# Altium integrated library BB Converter Digital to Analog.IntLib: 269 symbols (part 3 of 6)
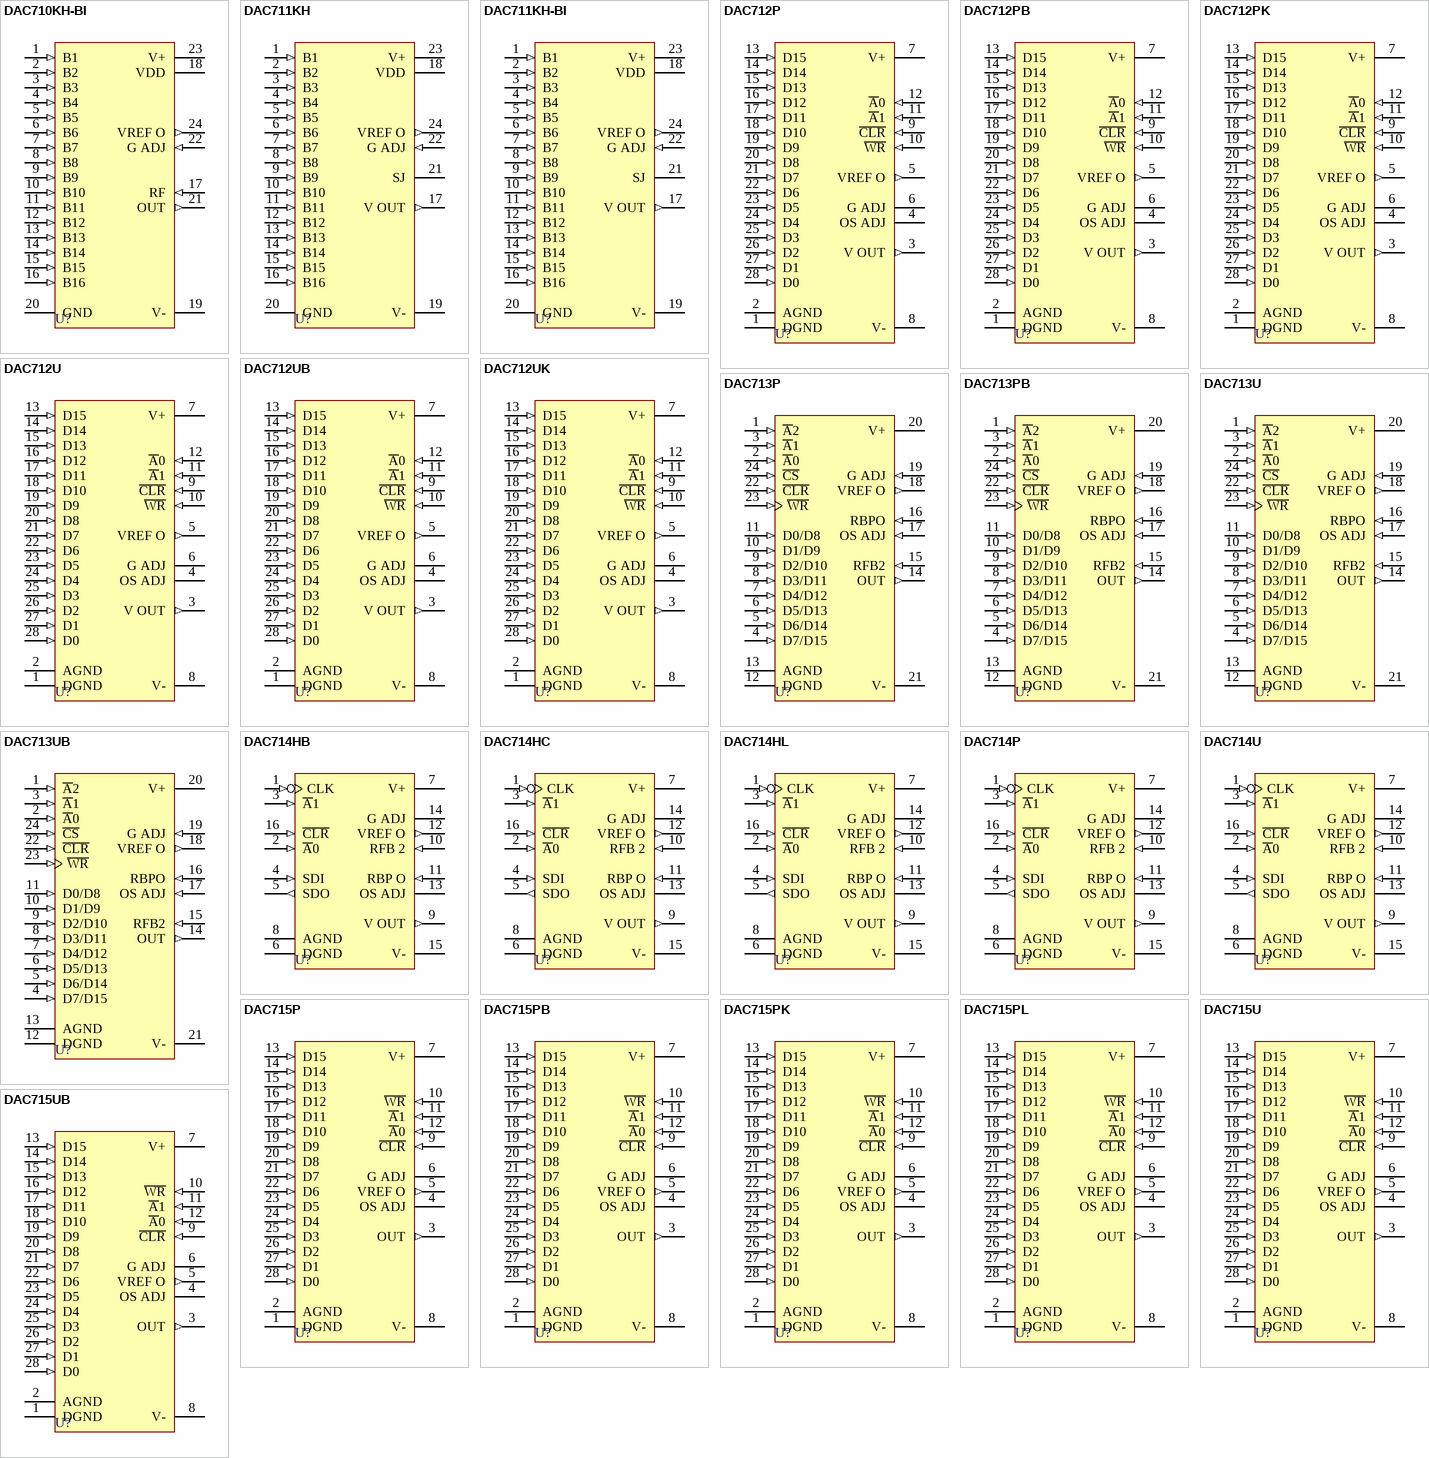
[diagram p12: symbols DAC710KH-BI to DAC715UB]

## DAC712PB
designator U?
16-Bit Digital-to-Analog Converter with 16-Bit Bus Interface; Published: 8-Jun-2000; LatestRevisionDate: 06-Jun-2005; LatestRevisionNote: Stylized 3D Model Added.; DatasheetVersion: May-1998; PackageVersion: revD; PackageReference: 246D; Publisher: Altium Limited; PackageDescription: DIP; 28 Leads; Row Spacing 7.62 mm; Pitch 2.54 mm; ComponentLink1Description: Manufacturer Link; ComponentLink1URL: http://www.ti.com/; ComponentLink2Description: Datasheet; ComponentLink2URL: http://www-s.ti.com/sc/ds/DAC712.pdf
footprint 246D (DIP; 28 Leads; Row Spacing 7.62 mm; Pitch 2.54 mm)
3D model 246D (DIP; 28 Leads; Row Spacing 7.62 mm; Pitch 2.54 mm)
pins: 1 DGND (power), 2 AGND (power), 3 V OUT (out), 4 OS ADJ, 5 VREF O (out), 6 G ADJ, 7 V+ (power), 8 V- (power), 9 ~{CLR} (in), 10 ~{WR} (in), 11 ~{A}1 (in), 12 ~{A}0 (in), 13 D15 (in), 14 D14 (in), 15 D13 (in), 16 D12 (in), 17 D11 (in), 18 D10 (in), 19 D9 (in), 20 D8 (in), 21 D7 (in), 22 D6 (in), 23 D5 (in), 24 D4 (in), 25 D3 (in), 26 D2 (in), 27 D1 (in), 28 D0 (in)

## DAC712PK
designator U?
16-Bit Digital-to-Analog Converter with 16-Bit Bus Interface; Published: 8-Jun-2000; LatestRevisionDate: 06-Jun-2005; LatestRevisionNote: Stylized 3D Model Added.; DatasheetVersion: May-1998; PackageVersion: revD; PackageReference: 246D; Publisher: Altium Limited; PackageDescription: DIP; 28 Leads; Row Spacing 7.62 mm; Pitch 2.54 mm; ComponentLink1Description: Manufacturer Link; ComponentLink1URL: http://www.ti.com/; ComponentLink2Description: Datasheet; ComponentLink2URL: http://www-s.ti.com/sc/ds/DAC712.pdf
footprint 246D (DIP; 28 Leads; Row Spacing 7.62 mm; Pitch 2.54 mm)
3D model 246D (DIP; 28 Leads; Row Spacing 7.62 mm; Pitch 2.54 mm)
pins: 1 DGND (power), 2 AGND (power), 3 V OUT (out), 4 OS ADJ, 5 VREF O (out), 6 G ADJ, 7 V+ (power), 8 V- (power), 9 ~{CLR} (in), 10 ~{WR} (in), 11 ~{A}1 (in), 12 ~{A}0 (in), 13 D15 (in), 14 D14 (in), 15 D13 (in), 16 D12 (in), 17 D11 (in), 18 D10 (in), 19 D9 (in), 20 D8 (in), 21 D7 (in), 22 D6 (in), 23 D5 (in), 24 D4 (in), 25 D3 (in), 26 D2 (in), 27 D1 (in), 28 D0 (in)

## DAC712U
designator U?
16-Bit Digital-to-Analog Converter with 16-Bit Bus Interface; Published: 8-Jun-2000; LatestRevisionDate: 13-Apr-2006; LatestRevisionNote: IPC-7351 Footprint Added.; DatasheetVersion: May-1998; PackageReference: 217G; Publisher: Altium Limited; PackageDescription: 28-Pin Small Outline Integrated Circuit 1.27 mm Pitch; ComponentLink1Description: Manufacturer Link; ComponentLink1URL: http://www.ti.com/; ComponentLink2Description: Datasheet; ComponentLink2URL: http://www-s.ti.com/sc/ds/DAC712.pdf
footprint 217G_N (SOIC, 28-Leads, Body 17.9x7.5mm, Pitch 1.27mm, IPC Medium Density)
footprint 217G_L (SOIC, 28-Leads, Body 17.9x7.5mm, Pitch 1.27mm, IPC High Density)
footprint 217G_M (SOIC, 28-Leads, Body 17.9x7.5mm, Pitch 1.27mm, IPC Low Density)
3D model 217G (28-Pin Small Outline Integrated Circuit 1.27 mm Pitch)
pins: 1 DGND (power), 2 AGND (power), 3 V OUT (out), 4 OS ADJ, 5 VREF O (out), 6 G ADJ, 7 V+ (power), 8 V- (power), 9 ~{CLR} (in), 10 ~{WR} (in), 11 ~{A}1 (in), 12 ~{A}0 (in), 13 D15 (in), 14 D14 (in), 15 D13 (in), 16 D12 (in), 17 D11 (in), 18 D10 (in), 19 D9 (in), 20 D8 (in), 21 D7 (in), 22 D6 (in), 23 D5 (in), 24 D4 (in), 25 D3 (in), 26 D2 (in), 27 D1 (in), 28 D0 (in)

## DAC712UB
designator U?
16-Bit Digital-to-Analog Converter with 16-Bit Bus Interface; Published: 8-Jun-2000; LatestRevisionDate: 13-Apr-2006; LatestRevisionNote: IPC-7351 Footprint Added.; DatasheetVersion: May-1998; PackageReference: 217G; Publisher: Altium Limited; PackageDescription: 28-Pin Small Outline Integrated Circuit 1.27 mm Pitch; ComponentLink1Description: Manufacturer Link; ComponentLink1URL: http://www.ti.com/; ComponentLink2Description: Datasheet; ComponentLink2URL: http://www-s.ti.com/sc/ds/DAC712.pdf
footprint 217G_N (SOIC, 28-Leads, Body 17.9x7.5mm, Pitch 1.27mm, IPC Medium Density)
footprint 217G_L (SOIC, 28-Leads, Body 17.9x7.5mm, Pitch 1.27mm, IPC High Density)
footprint 217G_M (SOIC, 28-Leads, Body 17.9x7.5mm, Pitch 1.27mm, IPC Low Density)
3D model 217G (28-Pin Small Outline Integrated Circuit 1.27 mm Pitch)
pins: 1 DGND (power), 2 AGND (power), 3 V OUT (out), 4 OS ADJ, 5 VREF O (out), 6 G ADJ, 7 V+ (power), 8 V- (power), 9 ~{CLR} (in), 10 ~{WR} (in), 11 ~{A}1 (in), 12 ~{A}0 (in), 13 D15 (in), 14 D14 (in), 15 D13 (in), 16 D12 (in), 17 D11 (in), 18 D10 (in), 19 D9 (in), 20 D8 (in), 21 D7 (in), 22 D6 (in), 23 D5 (in), 24 D4 (in), 25 D3 (in), 26 D2 (in), 27 D1 (in), 28 D0 (in)

## DAC712UK
designator U?
16-Bit Digital-to-Analog Converter with 16-Bit Bus Interface; Published: 8-Jun-2000; LatestRevisionDate: 13-Apr-2006; LatestRevisionNote: IPC-7351 Footprint Added.; DatasheetVersion: May-1998; PackageReference: 217G; Publisher: Altium Limited; PackageDescription: 28-Pin Small Outline Integrated Circuit 1.27 mm Pitch; ComponentLink1Description: Manufacturer Link; ComponentLink1URL: http://www.ti.com/; ComponentLink2Description: Datasheet; ComponentLink2URL: http://www-s.ti.com/sc/ds/DAC712.pdf
footprint 217G_N (SOIC, 28-Leads, Body 17.9x7.5mm, Pitch 1.27mm, IPC Medium Density)
footprint 217G_L (SOIC, 28-Leads, Body 17.9x7.5mm, Pitch 1.27mm, IPC High Density)
footprint 217G_M (SOIC, 28-Leads, Body 17.9x7.5mm, Pitch 1.27mm, IPC Low Density)
3D model 217G (28-Pin Small Outline Integrated Circuit 1.27 mm Pitch)
pins: 1 DGND (power), 2 AGND (power), 3 V OUT (out), 4 OS ADJ, 5 VREF O (out), 6 G ADJ, 7 V+ (power), 8 V- (power), 9 ~{CLR} (in), 10 ~{WR} (in), 11 ~{A}1 (in), 12 ~{A}0 (in), 13 D15 (in), 14 D14 (in), 15 D13 (in), 16 D12 (in), 17 D11 (in), 18 D10 (in), 19 D9 (in), 20 D8 (in), 21 D7 (in), 22 D6 (in), 23 D5 (in), 24 D4 (in), 25 D3 (in), 26 D2 (in), 27 D1 (in), 28 D0 (in)

## DAC713P
designator U?
16-Bit Digital-to-Analog Converter with 8-Bit Double-Buffered Bus Interface; Published: 8-Jun-2000; LatestRevisionDate: 06-Jun-2005; LatestRevisionNote: Stylized 3D Model Added.; DatasheetVersion: 1995; PackageVersion: revD; PackageReference: 243D; Publisher: Altium Limited; PackageDescription: DIP; 24 Leads; Row Spacing 7.62 mm; Pitch 2.54 mm; Code_JEDEC: MS-001-AF; ComponentLink1Description: Manufacturer Link; ComponentLink1URL: http://www.ti.com/
footprint 243D (DIP; 24 Leads; Row Spacing 7.62 mm; Pitch 2.54 mm)
3D model 243 (DIP; 24 Leads; Row Spacing 7.62 mm; Pitch 2.54 mm)
pins: 1 ~{A}2 (in), 2 ~{A}0 (in), 3 ~{A}1 (in), 4 D7/D15 (in), 5 D6/D14 (in), 6 D5/D13 (in), 7 D4/D12 (in), 8 D3/D11 (in), 9 D2/D10 (in), 10 D1/D9 (in), 11 D0/D8 (in), 12 DGND (power), 13 AGND (power), 14 OUT (out), 15 RFB2 (in), 16 RBPO (in), 17 OS ADJ (in), 18 VREF O (out), 19 G ADJ (in), 20 V+ (power), 21 V- (power), 22 ~{CLR} (in), 23 ~{WR} (in), 24 ~{CS} (in)

## DAC713PB
designator U?
16-Bit Digital-to-Analog Converter with 8-Bit Double-Buffered Bus Interface; Published: 8-Jun-2000; LatestRevisionDate: 06-Jun-2005; LatestRevisionNote: Stylized 3D Model Added.; DatasheetVersion: 1995; PackageVersion: revD; PackageReference: 243D; Publisher: Altium Limited; PackageDescription: DIP; 24 Leads; Row Spacing 7.62 mm; Pitch 2.54 mm; Code_JEDEC: MS-001-AF; ComponentLink1Description: Manufacturer Link; ComponentLink1URL: http://www.ti.com/
footprint 243D (DIP; 24 Leads; Row Spacing 7.62 mm; Pitch 2.54 mm)
3D model 243 (DIP; 24 Leads; Row Spacing 7.62 mm; Pitch 2.54 mm)
pins: 1 ~{A}2 (in), 2 ~{A}0 (in), 3 ~{A}1 (in), 4 D7/D15 (in), 5 D6/D14 (in), 6 D5/D13 (in), 7 D4/D12 (in), 8 D3/D11 (in), 9 D2/D10 (in), 10 D1/D9 (in), 11 D0/D8 (in), 12 DGND (power), 13 AGND (power), 14 OUT (out), 15 RFB2 (in), 16 RBPO (in), 17 OS ADJ (in), 18 VREF O (out), 19 G ADJ (in), 20 V+ (power), 21 V- (power), 22 ~{CLR} (in), 23 ~{WR} (in), 24 ~{CS} (in)

## DAC713U
designator U?
16-Bit Digital-to-Analog Converter with 8-Bit Double-Buffered Bus Interface; Published: 8-Jun-2000; LatestRevisionDate: 13-Apr-2006; LatestRevisionNote: IPC-7351 Footprint Added.; DatasheetVersion: 1995; PackageReference: 239E; Publisher: Altium Limited; PackageDescription: 24-Pin Small Outline Integrated Circuit 1.27 mm Pitch; ComponentLink1Description: Manufacturer Link; ComponentLink1URL: http://www.ti.com/
footprint 239E_N (SOIC, 24-Leads, Body 15.4x7.5mm, Pitch 1.27mm, IPC Medium Density)
footprint 239E_L (SOIC, 24-Leads, Body 15.4x7.5mm, Pitch 1.27mm, IPC High Density)
footprint 239E_M (SOIC, 24-Leads, Body 15.4x7.5mm, Pitch 1.27mm, IPC Low Density)
3D model 239 (24-Pin Small Outline Integrated Circuit 1.27 mm Pitch)
pins: 1 ~{A}2 (in), 2 ~{A}0 (in), 3 ~{A}1 (in), 4 D7/D15 (in), 5 D6/D14 (in), 6 D5/D13 (in), 7 D4/D12 (in), 8 D3/D11 (in), 9 D2/D10 (in), 10 D1/D9 (in), 11 D0/D8 (in), 12 DGND (power), 13 AGND (power), 14 OUT (out), 15 RFB2 (in), 16 RBPO (in), 17 OS ADJ (in), 18 VREF O (out), 19 G ADJ (in), 20 V+ (power), 21 V- (power), 22 ~{CLR} (in), 23 ~{WR} (in), 24 ~{CS} (in)

## DAC713UB
designator U?
16-Bit Digital-to-Analog Converter with 8-Bit Double-Buffered Bus Interface; Published: 8-Jun-2000; LatestRevisionDate: 13-Apr-2006; LatestRevisionNote: IPC-7351 Footprint Added.; DatasheetVersion: 1995; PackageReference: 239E; Publisher: Altium Limited; PackageDescription: 24-Pin Small Outline Integrated Circuit 1.27 mm Pitch; ComponentLink1Description: Manufacturer Link; ComponentLink1URL: http://www.ti.com/
footprint 239E_N (SOIC, 24-Leads, Body 15.4x7.5mm, Pitch 1.27mm, IPC Medium Density)
footprint 239E_L (SOIC, 24-Leads, Body 15.4x7.5mm, Pitch 1.27mm, IPC High Density)
footprint 239E_M (SOIC, 24-Leads, Body 15.4x7.5mm, Pitch 1.27mm, IPC Low Density)
3D model 239 (24-Pin Small Outline Integrated Circuit 1.27 mm Pitch)
pins: 1 ~{A}2 (in), 2 ~{A}0 (in), 3 ~{A}1 (in), 4 D7/D15 (in), 5 D6/D14 (in), 6 D5/D13 (in), 7 D4/D12 (in), 8 D3/D11 (in), 9 D2/D10 (in), 10 D1/D9 (in), 11 D0/D8 (in), 12 DGND (power), 13 AGND (power), 14 OUT (out), 15 RFB2 (in), 16 RBPO (in), 17 OS ADJ (in), 18 VREF O (out), 19 G ADJ (in), 20 V+ (power), 21 V- (power), 22 ~{CLR} (in), 23 ~{WR} (in), 24 ~{CS} (in)

## DAC714HB
designator U?
16-Bit Digital-to-Analog Converter with Serial Data Interface; Published: 8-Jun-2000; LatestRevisionDate: 06-Jun-2005; LatestRevisionNote: Stylized 3D Model Added.; DatasheetVersion: Jul-1997; PackageVersion: revD; PackageReference: ZZ129; Publisher: Altium Limited; PackageDescription: CerDIP; 16 Leads; Row Spacing 7.62 mm; Pitch 2.54 mm; ComponentLink1Description: Manufacturer Link; ComponentLink1URL: http://www.ti.com/; ComponentLink2Description: Datasheet; ComponentLink2URL: http://www-s.ti.com/sc/ds/DAC714.pdf
footprint ZZ129 (CerDIP; 16 Leads; Row Spacing 7.62 mm; Pitch 2.54 mm)
3D model ZZ129 (CerDIP; 16 Leads; Row Spacing 7.62 mm; Pitch 2.54 mm)
pins: 1 CLK (in), 2 ~{A}0 (in), 3 ~{A}1 (in), 4 SDI (in), 5 SDO (out), 6 DGND (power), 7 V+ (power), 8 AGND (power), 9 V OUT (out), 10 RFB 2 (in), 11 RBP O (in), 12 VREF O (out), 13 OS ADJ, 14 G ADJ, 15 V- (power), 16 ~{CLR} (in)

## DAC714HC
designator U?
16-Bit Digital-to-Analog Converter with Serial Data Interface; Published: 8-Jun-2000; LatestRevisionDate: 06-Jun-2005; LatestRevisionNote: Stylized 3D Model Added.; DatasheetVersion: Jul-1997; PackageVersion: revD; PackageReference: ZZ129; Publisher: Altium Limited; PackageDescription: CerDIP; 16 Leads; Row Spacing 7.62 mm; Pitch 2.54 mm; ComponentLink1Description: Manufacturer Link; ComponentLink1URL: http://www.ti.com/; ComponentLink2Description: Datasheet; ComponentLink2URL: http://www-s.ti.com/sc/ds/DAC714.pdf
footprint ZZ129 (CerDIP; 16 Leads; Row Spacing 7.62 mm; Pitch 2.54 mm)
3D model ZZ129 (CerDIP; 16 Leads; Row Spacing 7.62 mm; Pitch 2.54 mm)
pins: 1 CLK (in), 2 ~{A}0 (in), 3 ~{A}1 (in), 4 SDI (in), 5 SDO (out), 6 DGND (power), 7 V+ (power), 8 AGND (power), 9 V OUT (out), 10 RFB 2 (in), 11 RBP O (in), 12 VREF O (out), 13 OS ADJ, 14 G ADJ, 15 V- (power), 16 ~{CLR} (in)

## DAC714HL
designator U?
16-Bit Digital-to-Analog Converter with Serial Data Interface; Published: 8-Jun-2000; LatestRevisionDate: 06-Jun-2005; LatestRevisionNote: Stylized 3D Model Added.; DatasheetVersion: Jul-1997; PackageVersion: revD; PackageReference: ZZ129; Publisher: Altium Limited; PackageDescription: CerDIP; 16 Leads; Row Spacing 7.62 mm; Pitch 2.54 mm; ComponentLink1Description: Manufacturer Link; ComponentLink1URL: http://www.ti.com/; ComponentLink2Description: Datasheet; ComponentLink2URL: http://www-s.ti.com/sc/ds/DAC714.pdf
footprint ZZ129 (CerDIP; 16 Leads; Row Spacing 7.62 mm; Pitch 2.54 mm)
3D model ZZ129 (CerDIP; 16 Leads; Row Spacing 7.62 mm; Pitch 2.54 mm)
pins: 1 CLK (in), 2 ~{A}0 (in), 3 ~{A}1 (in), 4 SDI (in), 5 SDO (out), 6 DGND (power), 7 V+ (power), 8 AGND (power), 9 V OUT (out), 10 RFB 2 (in), 11 RBP O (in), 12 VREF O (out), 13 OS ADJ, 14 G ADJ, 15 V- (power), 16 ~{CLR} (in)

## DAC714P
designator U?
16-Bit Digital-to-Analog Converter with Serial Data Interface; Published: 8-Jun-2000; LatestRevisionDate: 06-Jun-2005; LatestRevisionNote: Stylized 3D Model Added.; DatasheetVersion: Jul-1997; PackageVersion: revF; PackageReference: ZZ180; Publisher: Altium Limited; PackageDescription: DIP, Plastic; 16 Leads; Row Spacing 7.62 mm; Pitch 2.54 mm; Code_JEDEC: MS-001-BB; ComponentLink1Description: Manufacturer Link; ComponentLink1URL: http://www.ti.com/; ComponentLink2Description: Datasheet; ComponentLink2URL: http://www-s.ti.com/sc/ds/DAC714.pdf
footprint ZZ180 (DIP, Plastic; 16 Leads; Row Spacing 7.62 mm; Pitch 2.54 mm)
3D model ZZ180 (DIP, Plastic; 16 Leads; Row Spacing 7.62 mm; Pitch 2.54 mm)
pins: 1 CLK (in), 2 ~{A}0 (in), 3 ~{A}1 (in), 4 SDI (in), 5 SDO (out), 6 DGND (power), 7 V+ (power), 8 AGND (power), 9 V OUT (out), 10 RFB 2 (in), 11 RBP O (in), 12 VREF O (out), 13 OS ADJ, 14 G ADJ, 15 V- (power), 16 ~{CLR} (in)

## DAC714U
designator U?
16-Bit Digital-to-Analog Converter with Serial Data Interface; Published: 8-Jun-2000; LatestRevisionDate: 13-Apr-2006; LatestRevisionNote: IPC-7351 Footprint Added.; DatasheetVersion: Jul-1997; PackageReference: 211F; Publisher: Altium Limited; PackageDescription: 16-Pin Small Outline Integrated Circuit 1.27 mm Pitch; Code_JEDEC: MS-013-AA; Code_IPC: SOIC127P1030-16; ComponentLink1Description: Manufacturer Link; ComponentLink1URL: http://www.ti.com/; ComponentLink2Description: Datasheet; ComponentLink2URL: http://www-s.ti.com/sc/ds/DAC714.pdf
footprint 211F_N (SOIC, 16-Leads, Body 10.3x7.5mm, Pitch 1.27mm, IPC Medium Density)
footprint 211F_L (SOIC, 16-Leads, Body 10.3x7.5mm, Pitch 1.27mm, IPC High Density)
footprint 211F_M (SOIC, 16-Leads, Body 10.3x7.5mm, Pitch 1.27mm, IPC Low Density)
3D model SOIC16 (16-Pin Small Outline Integrated Circuit 1.27 mm Pitch)
pins: 1 CLK (in), 2 ~{A}0 (in), 3 ~{A}1 (in), 4 SDI (in), 5 SDO (out), 6 DGND (power), 7 V+ (power), 8 AGND (power), 9 V OUT (out), 10 RFB 2 (in), 11 RBP O (in), 12 VREF O (out), 13 OS ADJ, 14 G ADJ, 15 V- (power), 16 ~{CLR} (in)

## DAC715P
designator U?
16-Bit Digital-to-Analog Converter with 16-Bit Bus Interface; Published: 8-Jun-2000; LatestRevisionDate: 06-Jun-2005; LatestRevisionNote: Stylized 3D Model Added.; DatasheetVersion: Jul-1997; PackageVersion: revD; PackageReference: 246D; Publisher: Altium Limited; PackageDescription: DIP; 28 Leads; Row Spacing 7.62 mm; Pitch 2.54 mm; ComponentLink1Description: Manufacturer Link; ComponentLink1URL: http://www.ti.com/; ComponentLink2Description: Datasheet; ComponentLink2URL: http://www-s.ti.com/sc/ds/DAC715.pdf
footprint 246D (DIP; 28 Leads; Row Spacing 7.62 mm; Pitch 2.54 mm)
3D model 246D (DIP; 28 Leads; Row Spacing 7.62 mm; Pitch 2.54 mm)
pins: 1 DGND (power), 2 AGND (power), 3 OUT (out), 4 OS ADJ, 5 VREF O (out), 6 G ADJ, 7 V+ (power), 8 V- (power), 9 ~{CLR} (in), 10 ~{WR} (in), 11 ~{A}1 (in), 12 ~{A}0 (in), 13 D15 (in), 14 D14 (in), 15 D13 (in), 16 D12 (in), 17 D11 (in), 18 D10 (in), 19 D9 (in), 20 D8 (in), 21 D7 (in), 22 D6 (in), 23 D5 (in), 24 D4 (in), 25 D3 (in), 26 D2 (in), 27 D1 (in), 28 D0 (in)

## DAC715PB
designator U?
16-Bit Digital-to-Analog Converter with 16-Bit Bus Interface; Published: 8-Jun-2000; LatestRevisionDate: 06-Jun-2005; LatestRevisionNote: Stylized 3D Model Added.; DatasheetVersion: Jul-1997; PackageVersion: revD; PackageReference: 246D; Publisher: Altium Limited; PackageDescription: DIP; 28 Leads; Row Spacing 7.62 mm; Pitch 2.54 mm; ComponentLink1Description: Manufacturer Link; ComponentLink1URL: http://www.ti.com/; ComponentLink2Description: Datasheet; ComponentLink2URL: http://www-s.ti.com/sc/ds/DAC715.pdf
footprint 246D (DIP; 28 Leads; Row Spacing 7.62 mm; Pitch 2.54 mm)
3D model 246D (DIP; 28 Leads; Row Spacing 7.62 mm; Pitch 2.54 mm)
pins: 1 DGND (power), 2 AGND (power), 3 OUT (out), 4 OS ADJ, 5 VREF O (out), 6 G ADJ, 7 V+ (power), 8 V- (power), 9 ~{CLR} (in), 10 ~{WR} (in), 11 ~{A}1 (in), 12 ~{A}0 (in), 13 D15 (in), 14 D14 (in), 15 D13 (in), 16 D12 (in), 17 D11 (in), 18 D10 (in), 19 D9 (in), 20 D8 (in), 21 D7 (in), 22 D6 (in), 23 D5 (in), 24 D4 (in), 25 D3 (in), 26 D2 (in), 27 D1 (in), 28 D0 (in)

## DAC715PK
designator U?
16-Bit Digital-to-Analog Converter with 16-Bit Bus Interface; Published: 8-Jun-2000; LatestRevisionDate: 06-Jun-2005; LatestRevisionNote: Stylized 3D Model Added.; DatasheetVersion: Jul-1997; PackageVersion: revD; PackageReference: 246D; Publisher: Altium Limited; PackageDescription: DIP; 28 Leads; Row Spacing 7.62 mm; Pitch 2.54 mm; ComponentLink1Description: Manufacturer Link; ComponentLink1URL: http://www.ti.com/; ComponentLink2Description: Datasheet; ComponentLink2URL: http://www-s.ti.com/sc/ds/DAC715.pdf
footprint 246D (DIP; 28 Leads; Row Spacing 7.62 mm; Pitch 2.54 mm)
3D model 246D (DIP; 28 Leads; Row Spacing 7.62 mm; Pitch 2.54 mm)
pins: 1 DGND (power), 2 AGND (power), 3 OUT (out), 4 OS ADJ, 5 VREF O (out), 6 G ADJ, 7 V+ (power), 8 V- (power), 9 ~{CLR} (in), 10 ~{WR} (in), 11 ~{A}1 (in), 12 ~{A}0 (in), 13 D15 (in), 14 D14 (in), 15 D13 (in), 16 D12 (in), 17 D11 (in), 18 D10 (in), 19 D9 (in), 20 D8 (in), 21 D7 (in), 22 D6 (in), 23 D5 (in), 24 D4 (in), 25 D3 (in), 26 D2 (in), 27 D1 (in), 28 D0 (in)

## DAC715PL
designator U?
16-Bit Digital-to-Analog Converter with 16-Bit Bus Interface; Published: 8-Jun-2000; LatestRevisionDate: 06-Jun-2005; LatestRevisionNote: Stylized 3D Model Added.; DatasheetVersion: Jul-1997; PackageVersion: revD; PackageReference: 246D; Publisher: Altium Limited; PackageDescription: DIP; 28 Leads; Row Spacing 7.62 mm; Pitch 2.54 mm; ComponentLink1Description: Manufacturer Link; ComponentLink1URL: http://www.ti.com/; ComponentLink2Description: Datasheet; ComponentLink2URL: http://www-s.ti.com/sc/ds/DAC715.pdf
footprint 246D (DIP; 28 Leads; Row Spacing 7.62 mm; Pitch 2.54 mm)
3D model 246D (DIP; 28 Leads; Row Spacing 7.62 mm; Pitch 2.54 mm)
pins: 1 DGND (power), 2 AGND (power), 3 OUT (out), 4 OS ADJ, 5 VREF O (out), 6 G ADJ, 7 V+ (power), 8 V- (power), 9 ~{CLR} (in), 10 ~{WR} (in), 11 ~{A}1 (in), 12 ~{A}0 (in), 13 D15 (in), 14 D14 (in), 15 D13 (in), 16 D12 (in), 17 D11 (in), 18 D10 (in), 19 D9 (in), 20 D8 (in), 21 D7 (in), 22 D6 (in), 23 D5 (in), 24 D4 (in), 25 D3 (in), 26 D2 (in), 27 D1 (in), 28 D0 (in)

## DAC715U
designator U?
16-Bit Digital-to-Analog Converter with 16-Bit Bus Interface; Published: 8-Jun-2000; LatestRevisionDate: 13-Apr-2006; LatestRevisionNote: IPC-7351 Footprint Added.; DatasheetVersion: Jul-1997; PackageReference: 217G; Publisher: Altium Limited; PackageDescription: 28-Pin Small Outline Integrated Circuit 1.27 mm Pitch; ComponentLink1Description: Manufacturer Link; ComponentLink1URL: http://www.ti.com/; ComponentLink2Description: Datasheet; ComponentLink2URL: http://www-s.ti.com/sc/ds/DAC715.pdf
footprint 217G_N (SOIC, 28-Leads, Body 17.9x7.5mm, Pitch 1.27mm, IPC Medium Density)
footprint 217G_L (SOIC, 28-Leads, Body 17.9x7.5mm, Pitch 1.27mm, IPC High Density)
footprint 217G_M (SOIC, 28-Leads, Body 17.9x7.5mm, Pitch 1.27mm, IPC Low Density)
3D model 217G (28-Pin Small Outline Integrated Circuit 1.27 mm Pitch)
pins: 1 DGND (power), 2 AGND (power), 3 OUT (out), 4 OS ADJ, 5 VREF O (out), 6 G ADJ, 7 V+ (power), 8 V- (power), 9 ~{CLR} (in), 10 ~{WR} (in), 11 ~{A}1 (in), 12 ~{A}0 (in), 13 D15 (in), 14 D14 (in), 15 D13 (in), 16 D12 (in), 17 D11 (in), 18 D10 (in), 19 D9 (in), 20 D8 (in), 21 D7 (in), 22 D6 (in), 23 D5 (in), 24 D4 (in), 25 D3 (in), 26 D2 (in), 27 D1 (in), 28 D0 (in)

## DAC715UB
designator U?
16-Bit Digital-to-Analog Converter with 16-Bit Bus Interface; Published: 8-Jun-2000; LatestRevisionDate: 13-Apr-2006; LatestRevisionNote: IPC-7351 Footprint Added.; DatasheetVersion: Jul-1997; PackageReference: 217G; Publisher: Altium Limited; PackageDescription: 28-Pin Small Outline Integrated Circuit 1.27 mm Pitch; ComponentLink1Description: Manufacturer Link; ComponentLink1URL: http://www.ti.com/; ComponentLink2Description: Datasheet; ComponentLink2URL: http://www-s.ti.com/sc/ds/DAC715.pdf
footprint 217G_N (SOIC, 28-Leads, Body 17.9x7.5mm, Pitch 1.27mm, IPC Medium Density)
footprint 217G_L (SOIC, 28-Leads, Body 17.9x7.5mm, Pitch 1.27mm, IPC High Density)
footprint 217G_M (SOIC, 28-Leads, Body 17.9x7.5mm, Pitch 1.27mm, IPC Low Density)
3D model 217G (28-Pin Small Outline Integrated Circuit 1.27 mm Pitch)
pins: 1 DGND (power), 2 AGND (power), 3 OUT (out), 4 OS ADJ, 5 VREF O (out), 6 G ADJ, 7 V+ (power), 8 V- (power), 9 ~{CLR} (in), 10 ~{WR} (in), 11 ~{A}1 (in), 12 ~{A}0 (in), 13 D15 (in), 14 D14 (in), 15 D13 (in), 16 D12 (in), 17 D11 (in), 18 D10 (in), 19 D9 (in), 20 D8 (in), 21 D7 (in), 22 D6 (in), 23 D5 (in), 24 D4 (in), 25 D3 (in), 26 D2 (in), 27 D1 (in), 28 D0 (in)

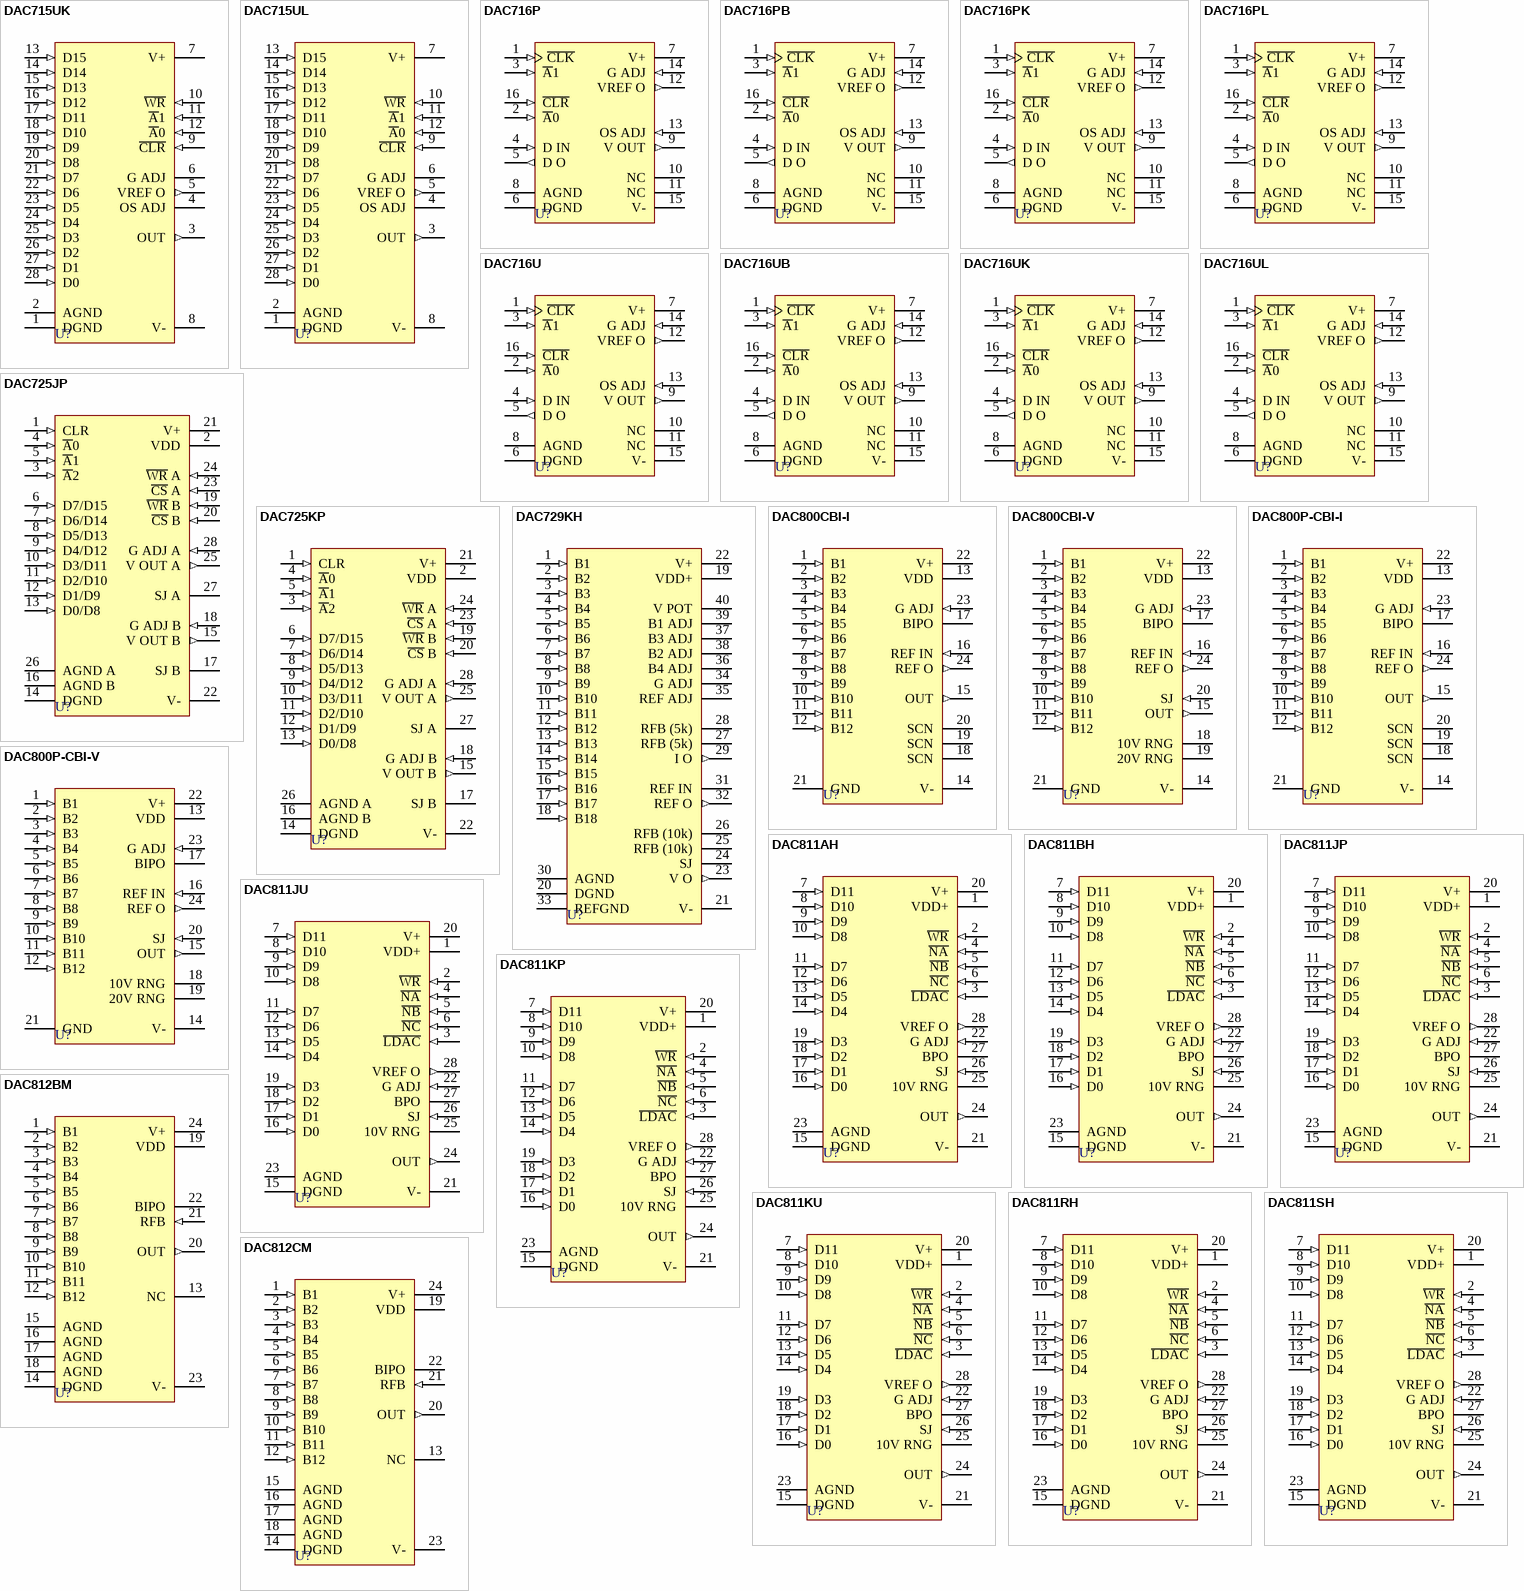
[diagram p5: symbols DAC715UK to DAC812CM]

## DAC715UK
designator U?
16-Bit Digital-to-Analog Converter with 16-Bit Bus Interface; Published: 8-Jun-2000; LatestRevisionDate: 13-Apr-2006; LatestRevisionNote: IPC-7351 Footprint Added.; DatasheetVersion: Jul-1997; PackageReference: 217G; Publisher: Altium Limited; PackageDescription: 28-Pin Small Outline Integrated Circuit 1.27 mm Pitch; ComponentLink1Description: Manufacturer Link; ComponentLink1URL: http://www.ti.com/; ComponentLink2Description: Datasheet; ComponentLink2URL: http://www-s.ti.com/sc/ds/DAC715.pdf
footprint 217G_N (SOIC, 28-Leads, Body 17.9x7.5mm, Pitch 1.27mm, IPC Medium Density)
footprint 217G_L (SOIC, 28-Leads, Body 17.9x7.5mm, Pitch 1.27mm, IPC High Density)
footprint 217G_M (SOIC, 28-Leads, Body 17.9x7.5mm, Pitch 1.27mm, IPC Low Density)
3D model 217G (28-Pin Small Outline Integrated Circuit 1.27 mm Pitch)
pins: 1 DGND (power), 2 AGND (power), 3 OUT (out), 4 OS ADJ, 5 VREF O (out), 6 G ADJ, 7 V+ (power), 8 V- (power), 9 ~{CLR} (in), 10 ~{WR} (in), 11 ~{A}1 (in), 12 ~{A}0 (in), 13 D15 (in), 14 D14 (in), 15 D13 (in), 16 D12 (in), 17 D11 (in), 18 D10 (in), 19 D9 (in), 20 D8 (in), 21 D7 (in), 22 D6 (in), 23 D5 (in), 24 D4 (in), 25 D3 (in), 26 D2 (in), 27 D1 (in), 28 D0 (in)

## DAC715UL
designator U?
16-Bit Digital-to-Analog Converter with 16-Bit Bus Interface; Published: 8-Jun-2000; LatestRevisionDate: 13-Apr-2006; LatestRevisionNote: IPC-7351 Footprint Added.; DatasheetVersion: Jul-1997; PackageReference: 217G; Publisher: Altium Limited; PackageDescription: 28-Pin Small Outline Integrated Circuit 1.27 mm Pitch; ComponentLink1Description: Manufacturer Link; ComponentLink1URL: http://www.ti.com/; ComponentLink2Description: Datasheet; ComponentLink2URL: http://www-s.ti.com/sc/ds/DAC715.pdf
footprint 217G_N (SOIC, 28-Leads, Body 17.9x7.5mm, Pitch 1.27mm, IPC Medium Density)
footprint 217G_L (SOIC, 28-Leads, Body 17.9x7.5mm, Pitch 1.27mm, IPC High Density)
footprint 217G_M (SOIC, 28-Leads, Body 17.9x7.5mm, Pitch 1.27mm, IPC Low Density)
3D model 217G (28-Pin Small Outline Integrated Circuit 1.27 mm Pitch)
pins: 1 DGND (power), 2 AGND (power), 3 OUT (out), 4 OS ADJ, 5 VREF O (out), 6 G ADJ, 7 V+ (power), 8 V- (power), 9 ~{CLR} (in), 10 ~{WR} (in), 11 ~{A}1 (in), 12 ~{A}0 (in), 13 D15 (in), 14 D14 (in), 15 D13 (in), 16 D12 (in), 17 D11 (in), 18 D10 (in), 19 D9 (in), 20 D8 (in), 21 D7 (in), 22 D6 (in), 23 D5 (in), 24 D4 (in), 25 D3 (in), 26 D2 (in), 27 D1 (in), 28 D0 (in)

## DAC716P
designator U?
16-Bit Digital-to-Analog Converter with Serial Data Interface; Note: Pins 10 and 11 are No internal Connection (NC) pins.; Published: 8-Jun-2000; LatestRevisionDate: 06-Jun-2005; LatestRevisionNote: Stylized 3D Model Added.; DatasheetVersion: Mar-1998; PackageVersion: revF; PackageReference: ZZ180; Publisher: Altium Limited; PackageDescription: DIP, Plastic; 16 Leads; Row Spacing 7.62 mm; Pitch 2.54 mm; Code_JEDEC: MS-001-BB; ComponentLink1Description: Manufacturer Link; ComponentLink1URL: http://www.ti.com/; ComponentLink2Description: Datasheet; ComponentLink2URL: http://www-s.ti.com/sc/ds/DAC716.pdf
footprint ZZ180 (DIP, Plastic; 16 Leads; Row Spacing 7.62 mm; Pitch 2.54 mm)
3D model ZZ180 (DIP, Plastic; 16 Leads; Row Spacing 7.62 mm; Pitch 2.54 mm)
pins: 1 ~{CLK} (in), 2 ~{A}0 (in), 3 ~{A}1 (in), 4 D IN (in), 5 D O (out), 6 DGND (power), 7 V+ (power), 8 AGND (power), 9 V OUT (out), 10 NC, 11 NC, 12 VREF O (out), 13 OS ADJ (in), 14 G ADJ (in), 15 V- (power), 16 ~{CLR} (in)

## DAC716PB
designator U?
16-Bit Digital-to-Analog Converter with Serial Data Interface; Note: Pins 10 and 11 are No internal Connection (NC) pins.; Published: 8-Jun-2000; LatestRevisionDate: 06-Jun-2005; LatestRevisionNote: Stylized 3D Model Added.; DatasheetVersion: Mar-1998; PackageVersion: revF; PackageReference: ZZ180; Publisher: Altium Limited; PackageDescription: DIP, Plastic; 16 Leads; Row Spacing 7.62 mm; Pitch 2.54 mm; Code_JEDEC: MS-001-BB; ComponentLink1Description: Manufacturer Link; ComponentLink1URL: http://www.ti.com/; ComponentLink2Description: Datasheet; ComponentLink2URL: http://www-s.ti.com/sc/ds/DAC716.pdf
footprint ZZ180 (DIP, Plastic; 16 Leads; Row Spacing 7.62 mm; Pitch 2.54 mm)
3D model ZZ180 (DIP, Plastic; 16 Leads; Row Spacing 7.62 mm; Pitch 2.54 mm)
pins: 1 ~{CLK} (in), 2 ~{A}0 (in), 3 ~{A}1 (in), 4 D IN (in), 5 D O (out), 6 DGND (power), 7 V+ (power), 8 AGND (power), 9 V OUT (out), 10 NC, 11 NC, 12 VREF O (out), 13 OS ADJ (in), 14 G ADJ (in), 15 V- (power), 16 ~{CLR} (in)

## DAC716PK
designator U?
16-Bit Digital-to-Analog Converter with Serial Data Interface; Note: Pins 10 and 11 are No internal Connection (NC) pins.; Published: 8-Jun-2000; LatestRevisionDate: 06-Jun-2005; LatestRevisionNote: Stylized 3D Model Added.; DatasheetVersion: Mar-1998; PackageVersion: revF; PackageReference: ZZ180; Publisher: Altium Limited; PackageDescription: DIP, Plastic; 16 Leads; Row Spacing 7.62 mm; Pitch 2.54 mm; Code_JEDEC: MS-001-BB; ComponentLink1Description: Manufacturer Link; ComponentLink1URL: http://www.ti.com/; ComponentLink2Description: Datasheet; ComponentLink2URL: http://www-s.ti.com/sc/ds/DAC716.pdf
footprint ZZ180 (DIP, Plastic; 16 Leads; Row Spacing 7.62 mm; Pitch 2.54 mm)
3D model ZZ180 (DIP, Plastic; 16 Leads; Row Spacing 7.62 mm; Pitch 2.54 mm)
pins: 1 ~{CLK} (in), 2 ~{A}0 (in), 3 ~{A}1 (in), 4 D IN (in), 5 D O (out), 6 DGND (power), 7 V+ (power), 8 AGND (power), 9 V OUT (out), 10 NC, 11 NC, 12 VREF O (out), 13 OS ADJ (in), 14 G ADJ (in), 15 V- (power), 16 ~{CLR} (in)

## DAC716PL
designator U?
16-Bit Digital-to-Analog Converter with Serial Data Interface; Note: Pins 10 and 11 are No internal Connection (NC) pins.; Published: 8-Jun-2000; LatestRevisionDate: 06-Jun-2005; LatestRevisionNote: Stylized 3D Model Added.; DatasheetVersion: 1996~1997; PackageVersion: revF; PackageReference: ZZ180; Publisher: Altium Limited; PackageDescription: DIP, Plastic; 16 Leads; Row Spacing 7.62 mm; Pitch 2.54 mm; Code_JEDEC: MS-001-BB; ComponentLink1Description: Manufacturer Link; ComponentLink1URL: http://www.ti.com/; ComponentLink2Description: Datasheet; ComponentLink2URL: http://www-s.ti.com/sc/ds/dac716.pdf
footprint ZZ180 (DIP, Plastic; 16 Leads; Row Spacing 7.62 mm; Pitch 2.54 mm)
3D model ZZ180 (DIP, Plastic; 16 Leads; Row Spacing 7.62 mm; Pitch 2.54 mm)
pins: 1 ~{CLK} (in), 2 ~{A}0 (in), 3 ~{A}1 (in), 4 D IN (in), 5 D O (out), 6 DGND (power), 7 V+ (power), 8 AGND (power), 9 V OUT (out), 10 NC, 11 NC, 12 VREF O (out), 13 OS ADJ (in), 14 G ADJ (in), 15 V- (power), 16 ~{CLR} (in)

## DAC716U
designator U?
16-Bit Digital-to-Analog Converter with Serial Data Interface; Note: Pins 10 and 11 are No internal Connection (NC) pins.; Published: 8-Jun-2000; LatestRevisionDate: 13-Apr-2006; LatestRevisionNote: IPC-7351 Footprint Added.; DatasheetVersion: Mar-1998; PackageReference: 211F; Publisher: Altium Limited; PackageDescription: 16-Pin Small Outline Integrated Circuit 1.27 mm Pitch; Code_JEDEC: MS-013-AA; Code_IPC: SOIC127P1030-16; ComponentLink1Description: Manufacturer Link; ComponentLink1URL: http://www.ti.com/; ComponentLink2Description: Datasheet; ComponentLink2URL: http://www-s.ti.com/sc/ds/DAC716.pdf
footprint 211F_N (SOIC, 16-Leads, Body 10.3x7.5mm, Pitch 1.27mm, IPC Medium Density)
footprint 211F_L (SOIC, 16-Leads, Body 10.3x7.5mm, Pitch 1.27mm, IPC High Density)
footprint 211F_M (SOIC, 16-Leads, Body 10.3x7.5mm, Pitch 1.27mm, IPC Low Density)
3D model SOIC16 (16-Pin Small Outline Integrated Circuit 1.27 mm Pitch)
pins: 1 ~{CLK} (in), 2 ~{A}0 (in), 3 ~{A}1 (in), 4 D IN (in), 5 D O (out), 6 DGND (power), 7 V+ (power), 8 AGND (power), 9 V OUT (out), 10 NC, 11 NC, 12 VREF O (out), 13 OS ADJ (in), 14 G ADJ (in), 15 V- (power), 16 ~{CLR} (in)

## DAC716UB
designator U?
16-Bit Digital-to-Analog Converter with Serial Data Interface; Note: Pins 10 and 11 are No internal Connection (NC) pins.; Published: 8-Jun-2000; LatestRevisionDate: 13-Apr-2006; LatestRevisionNote: IPC-7351 Footprint Added.; DatasheetVersion: Mar-1998; PackageReference: 211F; Publisher: Altium Limited; PackageDescription: 16-Pin Small Outline Integrated Circuit 1.27 mm Pitch; Code_JEDEC: MS-013-AA; Code_IPC: SOIC127P1030-16; ComponentLink1Description: Manufacturer Link; ComponentLink1URL: http://www.ti.com/; ComponentLink2Description: Datasheet; ComponentLink2URL: http://www-s.ti.com/sc/ds/DAC716.pdf
footprint 211F_N (SOIC, 16-Leads, Body 10.3x7.5mm, Pitch 1.27mm, IPC Medium Density)
footprint 211F_L (SOIC, 16-Leads, Body 10.3x7.5mm, Pitch 1.27mm, IPC High Density)
footprint 211F_M (SOIC, 16-Leads, Body 10.3x7.5mm, Pitch 1.27mm, IPC Low Density)
3D model SOIC16 (16-Pin Small Outline Integrated Circuit 1.27 mm Pitch)
pins: 1 ~{CLK} (in), 2 ~{A}0 (in), 3 ~{A}1 (in), 4 D IN (in), 5 D O (out), 6 DGND (power), 7 V+ (power), 8 AGND (power), 9 V OUT (out), 10 NC, 11 NC, 12 VREF O (out), 13 OS ADJ (in), 14 G ADJ (in), 15 V- (power), 16 ~{CLR} (in)

## DAC716UK
designator U?
16-Bit Digital-to-Analog Converter with Serial Data Interface; Note: Pins 10 and 11 are No internal Connection (NC) pins.; Published: 8-Jun-2000; LatestRevisionDate: 13-Apr-2006; LatestRevisionNote: IPC-7351 Footprint Added.; DatasheetVersion: Mar-1998; PackageReference: 211F; Publisher: Altium Limited; PackageDescription: 16-Pin Small Outline Integrated Circuit 1.27 mm Pitch; Code_JEDEC: MS-013-AA; Code_IPC: SOIC127P1030-16; ComponentLink1Description: Manufacturer Link; ComponentLink1URL: http://www.ti.com/; ComponentLink2Description: Datasheet; ComponentLink2URL: http://www-s.ti.com/sc/ds/DAC716.pdf
footprint 211F_N (SOIC, 16-Leads, Body 10.3x7.5mm, Pitch 1.27mm, IPC Medium Density)
footprint 211F_L (SOIC, 16-Leads, Body 10.3x7.5mm, Pitch 1.27mm, IPC High Density)
footprint 211F_M (SOIC, 16-Leads, Body 10.3x7.5mm, Pitch 1.27mm, IPC Low Density)
3D model SOIC16 (16-Pin Small Outline Integrated Circuit 1.27 mm Pitch)
pins: 1 ~{CLK} (in), 2 ~{A}0 (in), 3 ~{A}1 (in), 4 D IN (in), 5 D O (out), 6 DGND (power), 7 V+ (power), 8 AGND (power), 9 V OUT (out), 10 NC, 11 NC, 12 VREF O (out), 13 OS ADJ (in), 14 G ADJ (in), 15 V- (power), 16 ~{CLR} (in)

## DAC716UL
designator U?
16-Bit Digital-to-Analog Converter with Serial Data Interface; Note: Pins 10 and 11 are No internal Connection (NC) pins.; Published: 8-Jun-2000; LatestRevisionDate: 13-Apr-2006; LatestRevisionNote: IPC-7351 Footprint Added.; DatasheetVersion: 1996~1997; PackageReference: 211F; Publisher: Altium Limited; PackageDescription: 16-Pin Small Outline Integrated Circuit 1.27 mm Pitch; Code_JEDEC: MS-013-AA; Code_IPC: SOIC127P1030-16; ComponentLink1Description: Manufacturer Link; ComponentLink1URL: http://www.ti.com/; ComponentLink2Description: Datasheet; ComponentLink2URL: http://www-s.ti.com/sc/ds/dac716.pdf
footprint 211F_N (SOIC, 16-Leads, Body 10.3x7.5mm, Pitch 1.27mm, IPC Medium Density)
footprint 211F_L (SOIC, 16-Leads, Body 10.3x7.5mm, Pitch 1.27mm, IPC High Density)
footprint 211F_M (SOIC, 16-Leads, Body 10.3x7.5mm, Pitch 1.27mm, IPC Low Density)
3D model SOIC16 (16-Pin Small Outline Integrated Circuit 1.27 mm Pitch)
pins: 1 ~{CLK} (in), 2 ~{A}0 (in), 3 ~{A}1 (in), 4 D IN (in), 5 D O (out), 6 DGND (power), 7 V+ (power), 8 AGND (power), 9 V OUT (out), 10 NC, 11 NC, 12 VREF O (out), 13 OS ADJ (in), 14 G ADJ (in), 15 V- (power), 16 ~{CLR} (in)

## DAC725JP
designator U?
Dual 16-Bit Digital-to-Analog Converter; Published: 8-Jun-2000; LatestRevisionDate: 06-Jun-2005; LatestRevisionNote: Stylized 3D Model Added.; DatasheetVersion: Aug-1993; PackageVersion: revJ; PackageReference: 215J; Publisher: Altium Limited; PackageDescription: DIP; 28 Leads; Row Spacing 15.24 mm; Pitch 2.54 mm; Code_JEDEC: MS-011-AB; ComponentLink1Description: Manufacturer Link; ComponentLink1URL: http://www.ti.com/; ComponentLink2Description: Datasheet; ComponentLink2URL: http://www-s.ti.com/sc/ds/DAC725.pdf
footprint 215J (DIP; 28 Leads; Row Spacing 15.24 mm; Pitch 2.54 mm)
3D model 215J (DIP; 28 Leads; Row Spacing 15.24 mm; Pitch 2.54 mm)
pins: 1 CLR (in), 2 VDD (power), 3 ~{A}2 (in), 4 ~{A}0 (in), 5 ~{A}1 (in), 6 D7/D15 (in), 7 D6/D14 (in), 8 D5/D13 (in), 9 D4/D12 (in), 10 D3/D11 (in), 11 D2/D10 (in), 12 D1/D9 (in), 13 D0/D8 (in), 14 DGND (power), 15 V OUT B (out), 16 AGND B (power), 17 SJ B, 18 G ADJ B (in), 19 ~{WR} B (in), 20 ~{CS} B (in), 21 V+ (power), 22 V- (power), 23 ~{CS} A (in), 24 ~{WR} A (in), 25 V OUT A (out), 26 AGND A (power), 27 SJ A, 28 G ADJ A (in)

## DAC725KP
designator U?
Dual 16-Bit Digital-to-Analog Converter; Published: 8-Jun-2000; LatestRevisionDate: 06-Jun-2005; LatestRevisionNote: Stylized 3D Model Added.; DatasheetVersion: Aug-1993; PackageVersion: revJ; PackageReference: 215J; Publisher: Altium Limited; PackageDescription: DIP; 28 Leads; Row Spacing 15.24 mm; Pitch 2.54 mm; Code_JEDEC: MS-011-AB; ComponentLink1Description: Manufacturer Link; ComponentLink1URL: http://www.ti.com/; ComponentLink2Description: Datasheet; ComponentLink2URL: http://www-s.ti.com/sc/ds/DAC725.pdf
footprint 215J (DIP; 28 Leads; Row Spacing 15.24 mm; Pitch 2.54 mm)
3D model 215J (DIP; 28 Leads; Row Spacing 15.24 mm; Pitch 2.54 mm)
pins: 1 CLR (in), 2 VDD (power), 3 ~{A}2 (in), 4 ~{A}0 (in), 5 ~{A}1 (in), 6 D7/D15 (in), 7 D6/D14 (in), 8 D5/D13 (in), 9 D4/D12 (in), 10 D3/D11 (in), 11 D2/D10 (in), 12 D1/D9 (in), 13 D0/D8 (in), 14 DGND (power), 15 V OUT B (out), 16 AGND B (power), 17 SJ B, 18 G ADJ B (in), 19 ~{WR} B (in), 20 ~{CS} B (in), 21 V+ (power), 22 V- (power), 23 ~{CS} A (in), 24 ~{WR} A (in), 25 V OUT A (out), 26 AGND A (power), 27 SJ A, 28 G ADJ A (in)

## DAC729KH
designator U?
Ultra-High Resolution 18-Bit Digital-to-Analog Converter; Published: 8-Jun-2000; LatestRevisionDate: 06-Jun-2005; LatestRevisionNote: Stylized 3D Model Added.; DatasheetVersion: 1989; PackageVersion: 1994; PackageReference: 214; Publisher: Altium Limited; PackageDescription: DIP; 40 Leads; Row Spacing 15.24 mm; Pitch 2.54 mm; ComponentLink1Description: Manufacturer Link; ComponentLink1URL: http://www.ti.com/
footprint 214 (DIP; 40 Leads; Row Spacing 15.24 mm; Pitch 2.54 mm)
3D model 214 (DIP; 40 Leads; Row Spacing 15.24 mm; Pitch 2.54 mm)
pins: 1 B1 (in), 2 B2 (in), 3 B3 (in), 4 B4 (in), 5 B5 (in), 6 B6 (in), 7 B7 (in), 8 B8 (in), 9 B9 (in), 10 B10 (in), 11 B11 (in), 12 B12 (in), 13 B13 (in), 14 B14 (in), 15 B15 (in), 16 B16 (in), 17 B17 (in), 18 B18 (in), 19 VDD+ (power), 20 DGND (power), 21 V- (power), 22 V+ (power), 23 V O (out), 24 SJ, 25 RFB (10k), 26 RFB (10k), 27 RFB (5k), 28 RFB (5k), 29 I O (out), 30 AGND (power), 31 REF IN, 32 REF O (out), 33 REFGND (power), 34 G ADJ, 35 REF ADJ, 36 B4 ADJ, 37 B3 ADJ, 38 B2 ADJ, 39 B1 ADJ, 40 V POT

## DAC800CBI-I
designator U?
Integrated Circuit Digital-to-Analog Converter; Published: 8-Jun-2000; LatestRevisionDate: 06-Jun-2005; LatestRevisionNote: Stylized 3D Model Added.; DatasheetVersion: 1986; PackageReference: 125; Publisher: Altium Limited; PackageDescription: DIP; 24 Leads; Row Spacing 15.24 mm; Pitch 2.54 mm; ComponentLink1Description: Manufacturer Link; ComponentLink1URL: http://www.ti.com/
footprint 125 (DIP; 24 Leads; Row Spacing 15.24 mm; Pitch 2.54 mm)
3D model CDIP24 (DIP; 24 Leads; Row Spacing 15.24 mm; Pitch 2.54 mm)
pins: 1 B1 (in), 2 B2 (in), 3 B3 (in), 4 B4 (in), 5 B5 (in), 6 B6 (in), 7 B7 (in), 8 B8 (in), 9 B9 (in), 10 B10 (in), 11 B11 (in), 12 B12 (in), 13 VDD (power), 14 V- (power), 15 OUT (out), 16 REF IN (in), 17 BIPO, 18 SCN, 19 SCN, 20 SCN, 21 GND (power), 22 V+ (power), 23 G ADJ (in), 24 REF O (out)

## DAC800CBI-V
designator U?
Integrated Circuit Digital-to-Analog Converter; Published: 8-Jun-2000; LatestRevisionDate: 06-Jun-2005; LatestRevisionNote: Stylized 3D Model Added.; DatasheetVersion: 1986; PackageReference: 125; Publisher: Altium Limited; PackageDescription: DIP; 24 Leads; Row Spacing 15.24 mm; Pitch 2.54 mm; ComponentLink1Description: Manufacturer Link; ComponentLink1URL: http://www.ti.com/
footprint 125 (DIP; 24 Leads; Row Spacing 15.24 mm; Pitch 2.54 mm)
3D model CDIP24 (DIP; 24 Leads; Row Spacing 15.24 mm; Pitch 2.54 mm)
pins: 1 B1 (in), 2 B2 (in), 3 B3 (in), 4 B4 (in), 5 B5 (in), 6 B6 (in), 7 B7 (in), 8 B8 (in), 9 B9 (in), 10 B10 (in), 11 B11 (in), 12 B12 (in), 13 VDD (power), 14 V- (power), 15 OUT (out), 16 REF IN (in), 17 BIPO, 18 10V RNG, 19 20V RNG, 20 SJ (in), 21 GND (power), 22 V+ (power), 23 G ADJ (in), 24 REF O (out)

## DAC800P-CBI-I
designator U?
Integrated Circuit Digital-to-Analog Converter; Published: 8-Jun-2000; LatestRevisionDate: 06-Jun-2005; LatestRevisionNote: Stylized 3D Model Added.; DatasheetVersion: 1986; PackageReference: DIP24D; Publisher: Altium Limited; PackageDescription: DIP; 24 Leads; Row Spacing 15.24 mm; Pitch 2.54 mm; Code_JEDEC: MS-011-AA; ComponentLink1Description: Manufacturer Link; ComponentLink1URL: http://www.ti.com/
footprint DIP24D (DIP; 24 Leads; Row Spacing 15.24 mm; Pitch 2.54 mm)
3D model DIP24D (DIP; 24 Leads; Row Spacing 15.24 mm; Pitch 2.54 mm)
pins: 1 B1 (in), 2 B2 (in), 3 B3 (in), 4 B4 (in), 5 B5 (in), 6 B6 (in), 7 B7 (in), 8 B8 (in), 9 B9 (in), 10 B10 (in), 11 B11 (in), 12 B12 (in), 13 VDD (power), 14 V- (power), 15 OUT (out), 16 REF IN (in), 17 BIPO, 18 SCN, 19 SCN, 20 SCN, 21 GND (power), 22 V+ (power), 23 G ADJ (in), 24 REF O (out)

## DAC800P-CBI-V
designator U?
Integrated Circuit Digital-to-Analog Converter; Published: 8-Jun-2000; LatestRevisionDate: 06-Jun-2005; LatestRevisionNote: Stylized 3D Model Added.; DatasheetVersion: 1986; PackageReference: DIP24D; Publisher: Altium Limited; PackageDescription: DIP; 24 Leads; Row Spacing 15.24 mm; Pitch 2.54 mm; Code_JEDEC: MS-011-AA; ComponentLink1Description: Manufacturer Link; ComponentLink1URL: http://www.ti.com/
footprint DIP24D (DIP; 24 Leads; Row Spacing 15.24 mm; Pitch 2.54 mm)
3D model DIP24D (DIP; 24 Leads; Row Spacing 15.24 mm; Pitch 2.54 mm)
pins: 1 B1 (in), 2 B2 (in), 3 B3 (in), 4 B4 (in), 5 B5 (in), 6 B6 (in), 7 B7 (in), 8 B8 (in), 9 B9 (in), 10 B10 (in), 11 B11 (in), 12 B12 (in), 13 VDD (power), 14 V- (power), 15 OUT (out), 16 REF IN (in), 17 BIPO, 18 10V RNG, 19 20V RNG, 20 SJ (in), 21 GND (power), 22 V+ (power), 23 G ADJ (in), 24 REF O (out)

## DAC811AH
designator U?
Microprocessor-Compatible 12-Bit Digital-to-Analog Converter; Published: 8-Jun-2000; LatestRevisionDate: 06-Jun-2005; LatestRevisionNote: Stylized 3D Model Added.; DatasheetVersion: Oct-1993; PackageVersion: revC; PackageReference: 149C; Publisher: Altium Limited; PackageDescription: DIP; 28 Leads; Row Spacing 15.24 mm; Pitch 2.54 mm; ComponentLink1Description: Manufacturer Link; ComponentLink1URL: http://www.ti.com/; ComponentLink2Description: Datasheet; ComponentLink2URL: http://www-s.ti.com/sc/ds/DAC811.pdf
footprint 149C (DIP; 28 Leads; Row Spacing 15.24 mm; Pitch 2.54 mm)
3D model 149 (DIP; 28 Leads; Row Spacing 15.24 mm; Pitch 2.54 mm)
pins: 1 VDD+ (power), 2 ~{WR} (in), 3 ~{LDAC} (in), 4 ~{NA} (in), 5 ~{NB} (in), 6 ~{NC} (in), 7 D11 (in), 8 D10 (in), 9 D9 (in), 10 D8 (in), 11 D7 (in), 12 D6 (in), 13 D5 (in), 14 D4 (in), 15 DGND (power), 16 D0 (in), 17 D1 (in), 18 D2 (in), 19 D3 (in), 20 V+ (power), 21 V- (power), 22 G ADJ (in), 23 AGND (power), 24 OUT (out), 25 10V RNG, 26 SJ (in), 27 BPO, 28 VREF O (out)

## DAC811BH
designator U?
Microprocessor-Compatible 12-Bit Digital-to-Analog Converter; Published: 8-Jun-2000; LatestRevisionDate: 06-Jun-2005; LatestRevisionNote: Stylized 3D Model Added.; DatasheetVersion: Oct-1993; PackageVersion: revC; PackageReference: 149C; Publisher: Altium Limited; PackageDescription: DIP; 28 Leads; Row Spacing 15.24 mm; Pitch 2.54 mm; ComponentLink1Description: Manufacturer Link; ComponentLink1URL: http://www.ti.com/; ComponentLink2Description: Datasheet; ComponentLink2URL: http://www-s.ti.com/sc/ds/DAC811.pdf
footprint 149C (DIP; 28 Leads; Row Spacing 15.24 mm; Pitch 2.54 mm)
3D model 149 (DIP; 28 Leads; Row Spacing 15.24 mm; Pitch 2.54 mm)
pins: 1 VDD+ (power), 2 ~{WR} (in), 3 ~{LDAC} (in), 4 ~{NA} (in), 5 ~{NB} (in), 6 ~{NC} (in), 7 D11 (in), 8 D10 (in), 9 D9 (in), 10 D8 (in), 11 D7 (in), 12 D6 (in), 13 D5 (in), 14 D4 (in), 15 DGND (power), 16 D0 (in), 17 D1 (in), 18 D2 (in), 19 D3 (in), 20 V+ (power), 21 V- (power), 22 G ADJ (in), 23 AGND (power), 24 OUT (out), 25 10V RNG, 26 SJ (in), 27 BPO, 28 VREF O (out)

## DAC811JP
designator U?
Microprocessor-Compatible 12-Bit Digital-to-Analog Converter; Published: 8-Jun-2000; LatestRevisionDate: 06-Jun-2005; LatestRevisionNote: Stylized 3D Model Added.; DatasheetVersion: Oct-1993; PackageVersion: revJ; PackageReference: 215J; Publisher: Altium Limited; PackageDescription: DIP; 28 Leads; Row Spacing 15.24 mm; Pitch 2.54 mm; Code_JEDEC: MS-011-AB; ComponentLink1Description: Manufacturer Link; ComponentLink1URL: http://www.ti.com/; ComponentLink2Description: Datasheet; ComponentLink2URL: http://www-s.ti.com/sc/ds/DAC811.pdf
footprint 215J (DIP; 28 Leads; Row Spacing 15.24 mm; Pitch 2.54 mm)
3D model 215J (DIP; 28 Leads; Row Spacing 15.24 mm; Pitch 2.54 mm)
pins: 1 VDD+ (power), 2 ~{WR} (in), 3 ~{LDAC} (in), 4 ~{NA} (in), 5 ~{NB} (in), 6 ~{NC} (in), 7 D11 (in), 8 D10 (in), 9 D9 (in), 10 D8 (in), 11 D7 (in), 12 D6 (in), 13 D5 (in), 14 D4 (in), 15 DGND (power), 16 D0 (in), 17 D1 (in), 18 D2 (in), 19 D3 (in), 20 V+ (power), 21 V- (power), 22 G ADJ (in), 23 AGND (power), 24 OUT (out), 25 10V RNG, 26 SJ (in), 27 BPO, 28 VREF O (out)

## DAC811JU
designator U?
Microprocessor-Compatible 12-Bit Digital-to-Analog Converter; Published: 8-Jun-2000; LatestRevisionDate: 13-Apr-2006; LatestRevisionNote: IPC-7351 Footprint Added.; DatasheetVersion: Oct-1993; PackageReference: 217G; Publisher: Altium Limited; PackageDescription: 28-Pin Small Outline Integrated Circuit 1.27 mm Pitch; ComponentLink1Description: Manufacturer Link; ComponentLink1URL: http://www.ti.com/; ComponentLink2Description: Datasheet; ComponentLink2URL: http://www-s.ti.com/sc/ds/DAC811.pdf
footprint 217G_N (SOIC, 28-Leads, Body 17.9x7.5mm, Pitch 1.27mm, IPC Medium Density)
footprint 217G_L (SOIC, 28-Leads, Body 17.9x7.5mm, Pitch 1.27mm, IPC High Density)
footprint 217G_M (SOIC, 28-Leads, Body 17.9x7.5mm, Pitch 1.27mm, IPC Low Density)
3D model 217G (28-Pin Small Outline Integrated Circuit 1.27 mm Pitch)
pins: 1 VDD+ (power), 2 ~{WR} (in), 3 ~{LDAC} (in), 4 ~{NA} (in), 5 ~{NB} (in), 6 ~{NC} (in), 7 D11 (in), 8 D10 (in), 9 D9 (in), 10 D8 (in), 11 D7 (in), 12 D6 (in), 13 D5 (in), 14 D4 (in), 15 DGND (power), 16 D0 (in), 17 D1 (in), 18 D2 (in), 19 D3 (in), 20 V+ (power), 21 V- (power), 22 G ADJ (in), 23 AGND (power), 24 OUT (out), 25 10V RNG, 26 SJ (in), 27 BPO, 28 VREF O (out)

## DAC811KP
designator U?
Microprocessor-Compatible 12-Bit Digital-to-Analog Converter; Published: 8-Jun-2000; LatestRevisionDate: 06-Jun-2005; LatestRevisionNote: Stylized 3D Model Added.; DatasheetVersion: Oct-1993; PackageVersion: revJ; PackageReference: 215J; Publisher: Altium Limited; PackageDescription: DIP; 28 Leads; Row Spacing 15.24 mm; Pitch 2.54 mm; Code_JEDEC: MS-011-AB; ComponentLink1Description: Manufacturer Link; ComponentLink1URL: http://www.ti.com/; ComponentLink2Description: Datasheet; ComponentLink2URL: http://www-s.ti.com/sc/ds/DAC811.pdf
footprint 215J (DIP; 28 Leads; Row Spacing 15.24 mm; Pitch 2.54 mm)
3D model 215J (DIP; 28 Leads; Row Spacing 15.24 mm; Pitch 2.54 mm)
pins: 1 VDD+ (power), 2 ~{WR} (in), 3 ~{LDAC} (in), 4 ~{NA} (in), 5 ~{NB} (in), 6 ~{NC} (in), 7 D11 (in), 8 D10 (in), 9 D9 (in), 10 D8 (in), 11 D7 (in), 12 D6 (in), 13 D5 (in), 14 D4 (in), 15 DGND (power), 16 D0 (in), 17 D1 (in), 18 D2 (in), 19 D3 (in), 20 V+ (power), 21 V- (power), 22 G ADJ (in), 23 AGND (power), 24 OUT (out), 25 10V RNG, 26 SJ (in), 27 BPO, 28 VREF O (out)

## DAC811KU
designator U?
Microprocessor-Compatible 12-Bit Digital-to-Analog Converter; Published: 8-Jun-2000; LatestRevisionDate: 13-Apr-2006; LatestRevisionNote: IPC-7351 Footprint Added.; DatasheetVersion: Oct-1993; PackageReference: 217G; Publisher: Altium Limited; PackageDescription: 28-Pin Small Outline Integrated Circuit 1.27 mm Pitch; ComponentLink1Description: Manufacturer Link; ComponentLink1URL: http://www.ti.com/; ComponentLink2Description: Datasheet; ComponentLink2URL: http://www-s.ti.com/sc/ds/DAC811.pdf
footprint 217G_N (SOIC, 28-Leads, Body 17.9x7.5mm, Pitch 1.27mm, IPC Medium Density)
footprint 217G_L (SOIC, 28-Leads, Body 17.9x7.5mm, Pitch 1.27mm, IPC High Density)
footprint 217G_M (SOIC, 28-Leads, Body 17.9x7.5mm, Pitch 1.27mm, IPC Low Density)
3D model 217G (28-Pin Small Outline Integrated Circuit 1.27 mm Pitch)
pins: 1 VDD+ (power), 2 ~{WR} (in), 3 ~{LDAC} (in), 4 ~{NA} (in), 5 ~{NB} (in), 6 ~{NC} (in), 7 D11 (in), 8 D10 (in), 9 D9 (in), 10 D8 (in), 11 D7 (in), 12 D6 (in), 13 D5 (in), 14 D4 (in), 15 DGND (power), 16 D0 (in), 17 D1 (in), 18 D2 (in), 19 D3 (in), 20 V+ (power), 21 V- (power), 22 G ADJ (in), 23 AGND (power), 24 OUT (out), 25 10V RNG, 26 SJ (in), 27 BPO, 28 VREF O (out)

## DAC811RH
designator U?
Microprocessor-Compatible 12-Bit Digital-to-Analog Converter; Published: 8-Jun-2000; LatestRevisionDate: 06-Jun-2005; LatestRevisionNote: Stylized 3D Model Added.; DatasheetVersion: Oct-1993; PackageVersion: revC; PackageReference: 149C; Publisher: Altium Limited; PackageDescription: DIP; 28 Leads; Row Spacing 15.24 mm; Pitch 2.54 mm; ComponentLink1Description: Manufacturer Link; ComponentLink1URL: http://www.ti.com/; ComponentLink2Description: Datasheet; ComponentLink2URL: http://www-s.ti.com/sc/ds/DAC811.pdf
footprint 149C (DIP; 28 Leads; Row Spacing 15.24 mm; Pitch 2.54 mm)
3D model 149 (DIP; 28 Leads; Row Spacing 15.24 mm; Pitch 2.54 mm)
pins: 1 VDD+ (power), 2 ~{WR} (in), 3 ~{LDAC} (in), 4 ~{NA} (in), 5 ~{NB} (in), 6 ~{NC} (in), 7 D11 (in), 8 D10 (in), 9 D9 (in), 10 D8 (in), 11 D7 (in), 12 D6 (in), 13 D5 (in), 14 D4 (in), 15 DGND (power), 16 D0 (in), 17 D1 (in), 18 D2 (in), 19 D3 (in), 20 V+ (power), 21 V- (power), 22 G ADJ (in), 23 AGND (power), 24 OUT (out), 25 10V RNG, 26 SJ (in), 27 BPO, 28 VREF O (out)

## DAC811SH
designator U?
Microprocessor-Compatible 12-Bit Digital-to-Analog Converter; Published: 8-Jun-2000; LatestRevisionDate: 06-Jun-2005; LatestRevisionNote: Stylized 3D Model Added.; DatasheetVersion: Oct-1993; PackageVersion: revC; PackageReference: 149C; Publisher: Altium Limited; PackageDescription: DIP; 28 Leads; Row Spacing 15.24 mm; Pitch 2.54 mm; ComponentLink1Description: Manufacturer Link; ComponentLink1URL: http://www.ti.com/; ComponentLink2Description: Datasheet; ComponentLink2URL: http://www-s.ti.com/sc/ds/DAC811.pdf
footprint 149C (DIP; 28 Leads; Row Spacing 15.24 mm; Pitch 2.54 mm)
3D model 149 (DIP; 28 Leads; Row Spacing 15.24 mm; Pitch 2.54 mm)
pins: 1 VDD+ (power), 2 ~{WR} (in), 3 ~{LDAC} (in), 4 ~{NA} (in), 5 ~{NB} (in), 6 ~{NC} (in), 7 D11 (in), 8 D10 (in), 9 D9 (in), 10 D8 (in), 11 D7 (in), 12 D6 (in), 13 D5 (in), 14 D4 (in), 15 DGND (power), 16 D0 (in), 17 D1 (in), 18 D2 (in), 19 D3 (in), 20 V+ (power), 21 V- (power), 22 G ADJ (in), 23 AGND (power), 24 OUT (out), 25 10V RNG, 26 SJ (in), 27 BPO, 28 VREF O (out)

## DAC812BM
designator U?
Ultra-High-Speed Digital-to-Analog Converter; Note: Pin 13 is No internal Connection pin.; Published: 8-Jun-2000; LatestRevisionDate: 17-Jul-2002; LatestRevisionNote: Re-released for DXP Platform.; DatasheetVersion: 1989; PackageVersion: 1994; PackageReference: ZZ113; Publisher: Altium Limited; PackageDescription: DIP; 24 Round Pins; Row Space 15.24 mm; Pitch 2.54 mm; ComponentLink1Description: Manufacturer Link; ComponentLink1URL: http://www.ti.com/
footprint ZZ113 (DIP; 24 Round Pins; Row Space 15.24 mm; Pitch 2.54 mm)
pins: 1 B1 (in), 2 B2 (in), 3 B3 (in), 4 B4 (in), 5 B5 (in), 6 B6 (in), 7 B7 (in), 8 B8 (in), 9 B9 (in), 10 B10 (in), 11 B11 (in), 12 B12 (in), 13 NC, 14 DGND (power), 15 AGND (power), 16 AGND (power), 17 AGND (power), 18 AGND (power), 19 VDD (power), 20 OUT (out), 21 RFB (in), 22 BIPO, 23 V- (power), 24 V+ (power)